# EAGLE library part FPC-33WAY (library pimoroni-fpc)
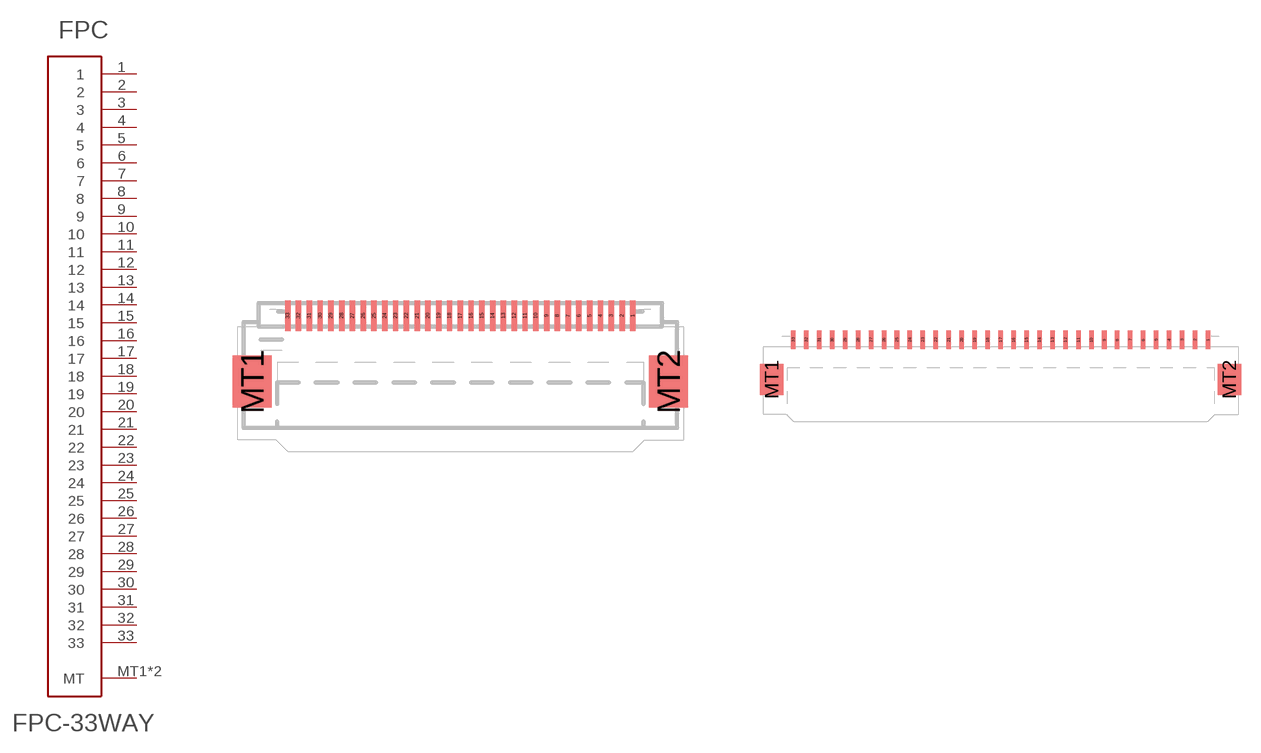
[diagram p28: symbol with the pads of FPC-0.5MM-33WAY; footprints FPC-0.5MM-33WAY, FPC-1.0MM-33WAY]

Designator prefix FPC

## FPC-33WAY0.5  [FPC-0.5MM-33WAY]
1  1
2  2
3  3
4  4
5  5
6  6
7  7
8  8
9  9
10  10
11  11
12  12
13  13
14  14
15  15
16  16
17  17
18  18
19  19
20  20
21  21
22  22
23  23
24  24
25  25
26  26
27  27
28  28
29  29
30  30
31  31
32  32
33  33
MT1  MT
MT2  MT

## FPC-33WAY1.0  [FPC-1.0MM-33WAY]
Pads as for FPC-0.5MM-33WAY

## Footprint FPC-0.5MM-33WAY (pad centres in mm)
smd 0.25 x 1.4: 1 8,0.7; 2 7.5,0.7; 3 7,0.7; 4 6.5,0.7; 5 6,0.7; 6 5.5,0.7; 7 5,0.7; 8 4.5,0.7; 9 4,0.7; 10 3.5,0.7; 11 3,0.7; 12 2.5,0.7; 13 2,0.7; 14 1.5,0.7; 15 1,0.7; 16 0.5,0.7; 17 0,0.7; 18 -0.5,0.7; 19 -1,0.7; 20 -1.5,0.7; 21 -2,0.7; 22 -2.5,0.7; 23 -3,0.7; 24 -3.5,0.7; 25 -4,0.7; 26 -4.5,0.7; 27 -5,0.7; 28 -5.5,0.7; 29 -6,0.7; 30 -6.5,0.7; 31 -7,0.7; 32 -7.5,0.7; 33 -8,0.7
smd 1.8 x 2.4: MT1 -9.65,-2.35; MT2 9.65,-2.35

## Footprint FPC-1.0MM-33WAY (pad centres in mm)
smd 0.35 x 1.4: 1 16,0.7; 2 15,0.7; 3 14,0.7; 4 13,0.7; 5 12,0.7; 6 11,0.7; 7 10,0.7; 8 9,0.7; 9 8,0.7; 10 7,0.7; 11 6,0.7; 12 5,0.7; 13 4,0.7; 14 3,0.7; 15 2,0.7; 16 1,0.7; 17 0,0.7; 18 -1,0.7; 19 -2,0.7; 20 -3,0.7; 21 -4,0.7; 22 -5,0.7; 23 -6,0.7; 24 -7,0.7; 25 -8,0.7; 26 -9,0.7; 27 -10,0.7; 28 -11,0.7; 29 -12,0.7; 30 -13,0.7; 31 -14,0.7; 32 -15,0.7; 33 -16,0.7
smd 1.8 x 2.4: MT1 -17.65,-2.35; MT2 17.65,-2.35